# EAGLE library part ARDUINO-NANO (library wicked-device)
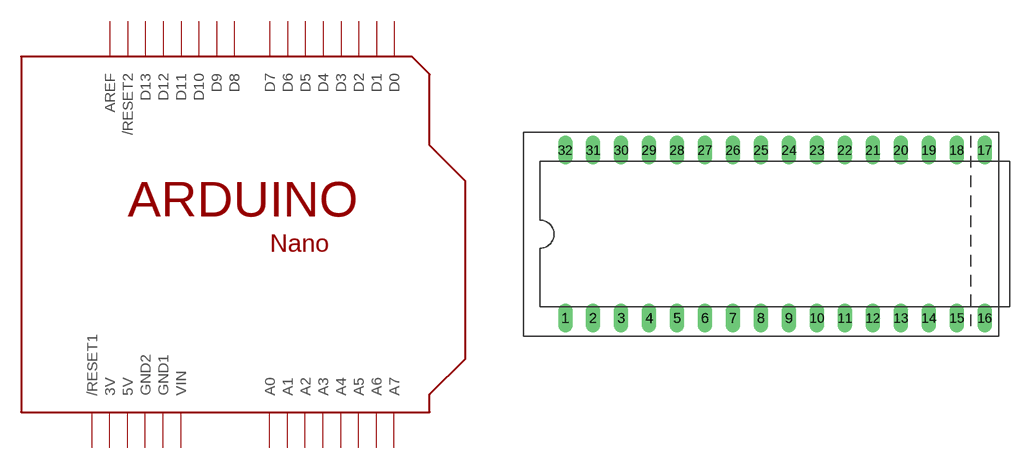
[diagram p2: symbol with the pads of ARDIUINO_NANO; footprint ARDIUINO_NANO]

Designator prefix -

## ARDUINO-NANOOUTLINED  [ARDIUINO_NANO]
1  D1
2  D0
3  /RESET1
4  GND1  pwr
5  D2
6  D3
7  D4
8  D5
9  D6
10  D7
11  D8
12  D9
13  D10
14  D11
15  D12
18  D13
19  3V  pwr
20  AREF
21  A7
22  A6
23  A5
24  A4
25  A3
26  A2
27  A1
28  A0
29  5V  pwr
30  /RESET2  pwr
31  GND2  pwr
32  VIN  pwr

## Footprint ARDIUINO_NANO (pad centres in mm)
drill 0.813 long: 1 -17.78,-7.62; 2 -15.24,-7.62; 3 -12.7,-7.62; 4 -10.16,-7.62; 5 -7.62,-7.62; 6 -5.08,-7.62; 7 -2.54,-7.62; 8 0,-7.62; 9 2.54,-7.62; 10 5.08,-7.62; 11 7.62,-7.62; 12 10.16,-7.62; 13 12.7,-7.62; 14 15.24,-7.62; 15 17.78,-7.62; 16 20.32,-7.62; 17 20.32,7.62; 18 17.78,7.62; 19 15.24,7.62; 20 12.7,7.62; 21 10.16,7.62; 22 7.62,7.62; 23 5.08,7.62; 24 2.54,7.62; 25 0,7.62; 26 -2.54,7.62; 27 -5.08,7.62; 28 -7.62,7.62; 29 -10.16,7.62; 30 -12.7,7.62; 31 -15.24,7.62; 32 -17.78,7.62